# Altium footprint library Buzzer.PcbLib: 3 footprints
Each footprint in its own frame and in the unit in brackets; x right, y up, seen from the top. Pads: shape width x height; smd on the part's side, far side on the other; paste and mask are expansions set on the pad; w line width, h text height; cw(c..) or ccw(c..) is an arc to the next point about the centre after c.
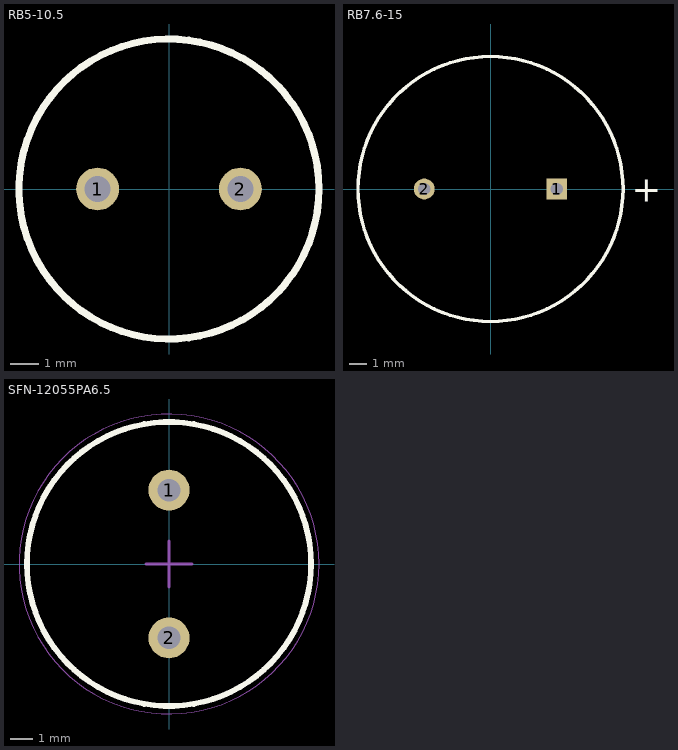
[diagram p0: the footprints below, top view; thin cyan lines are the x and y axes]

## RB5-10.5 [mm] "Capacitor (Radial); 2 Leads"
pads (2):
  round 1.5 hole 0.9: 1(-2.5,0) 2(2.5,0)
Top Overlay:
  circle w0.25: c0,0 r5.25
Mechanical 1:
  circle w0.02: c0,0 r5.25

## RB7.6-15 [mm] "Polarized Capacitor (Radial); 2 Leads"
pads (2):
  rect 1.2x1.2 hole 0.7: 1(3.81,0)
  round 1.2 hole 0.7: 2(-3.81,0)
Top Overlay:
  circle w0.2: c0,0 r7.62
  text "+" at 8.132,-0.737 h1.5

## SFN-12055PA6.5 [mm]
pads (2):
  round 1.8 hole 1: 1(0,3.25) 2(0,-3.25)
Top Overlay:
  circle w0.254: c0,0 r6.25
Mechanical 13:
  circle w0.152: c0,0 r6.25
Mechanical 15:
  circle w0.05: c0,0 r6.6
  lines w0.152: -1,0 1,0 ; 0,-1 0,1
3D body: height 5.5, standoff 0, extent -6.25,-6.25 6.25,6.25